# Altium footprint library Potentiometer_SMD.PcbLib: 26 footprints (part 1 of 2)
Each footprint in its own frame and in the unit in brackets; x right, y up, seen from the top. Pads: shape width x height; smd on the part's side, far side on the other; paste and mask are expansions set on the pad; w line width, h text height; cw(c..) or ccw(c..) is an arc to the next point about the centre after c.
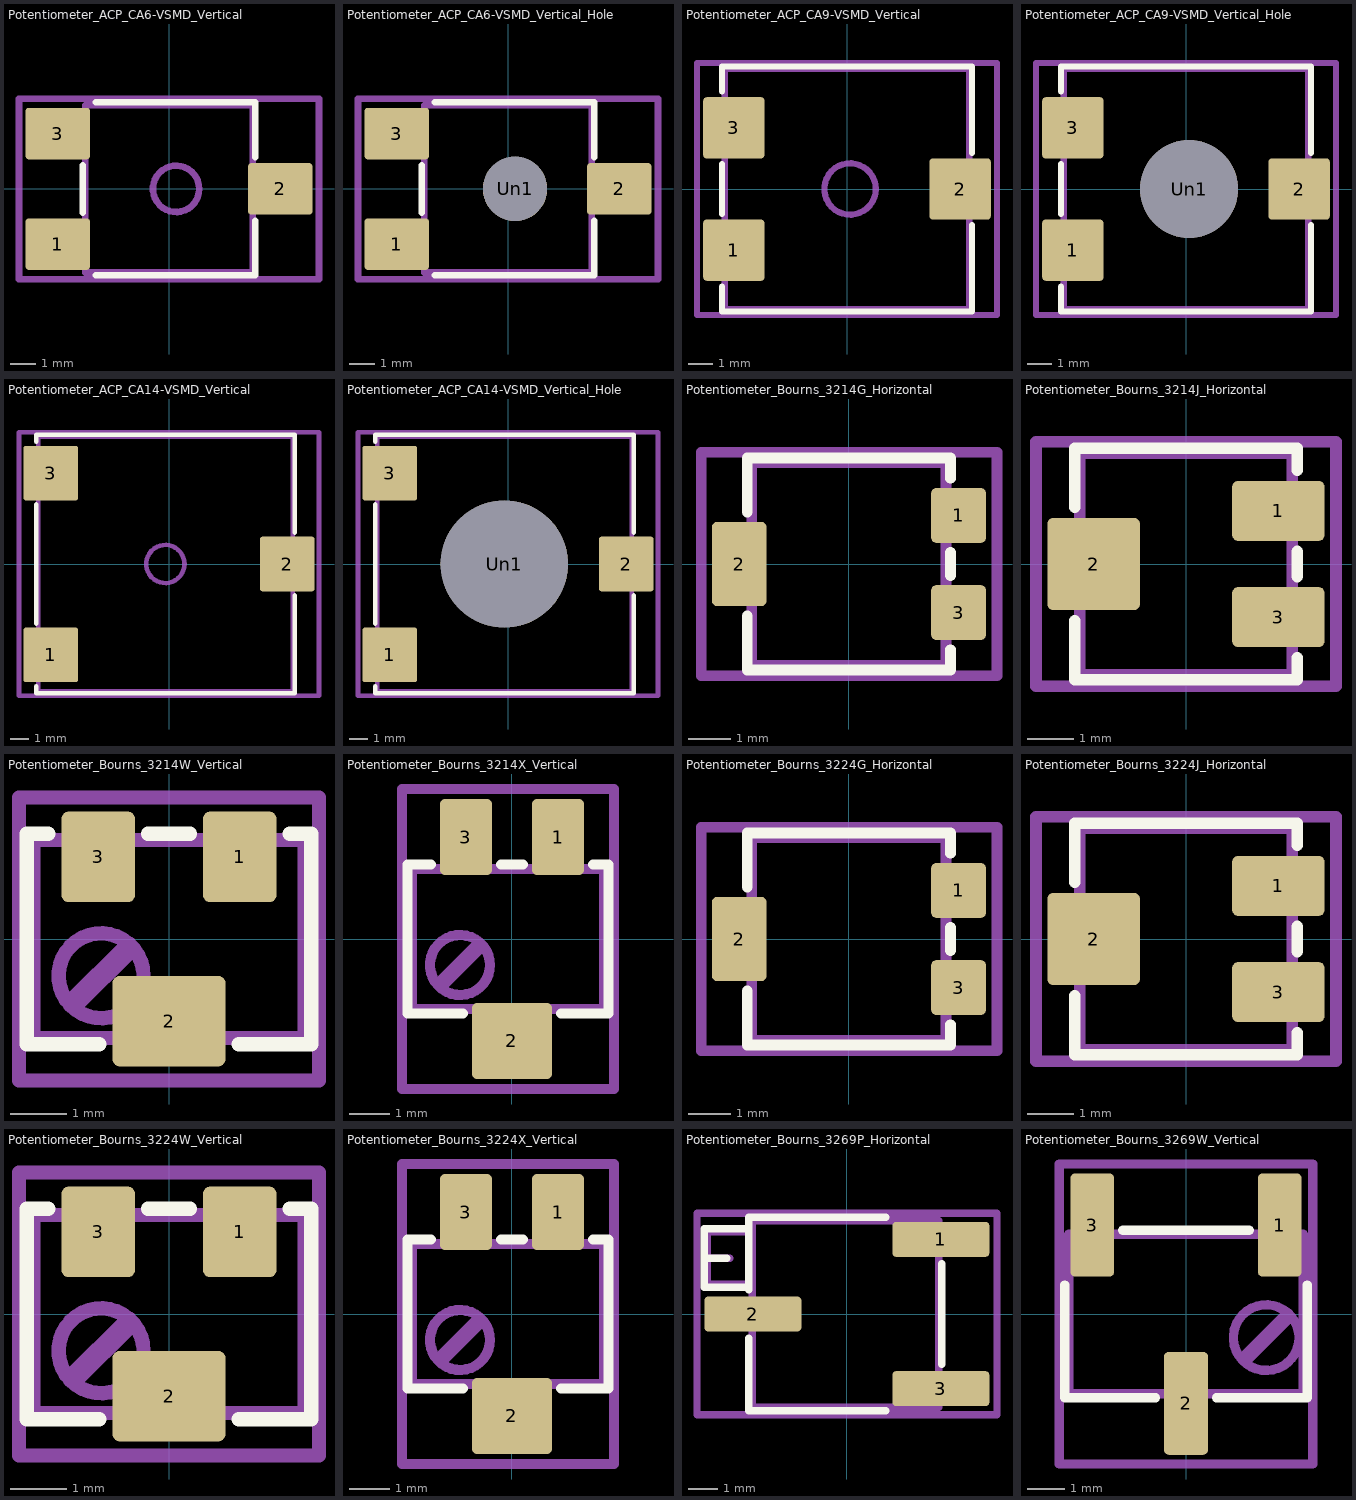
[diagram p0: the footprints below, top view; thin cyan lines are the x and y axes]

## Potentiometer_ACP_CA6-VSMD_Vertical [mm]
pads (3):
  rrect12% 2.5x2 smd: 1(-4.325,-2.15) 2(4.325,0) 3(-4.325,2.15)
F.SilkS:
  lines w0.254: -3.36,-0.92 -3.36,0.92 ; -2.845,-3.36 3.36,-3.36 3.36,-1.23 ; -2.845,3.36 3.36,3.36 3.36,1.23
F.Fab:
  circle w0.254: c0.275,0 r0.9
  lines w0.254: -3.25,-3.25 -3.25,3.25 3.25,3.25 3.25,-3.25 -3.25,-3.25
  text "'.Designator'" at -1.41,-4.047 h1
F.CrtYd:
  lines w0.254: -5.83,-3.51 -5.83,3.5 5.83,3.5 5.83,-3.51 -5.83,-3.51

## Potentiometer_ACP_CA6-VSMD_Vertical_Hole [mm]
pads (4):
  rrect12% 2.5x2 smd: 1(-4.325,-2.15) 2(4.325,0) 3(-4.325,2.15)
  round 2.5 hole 2.5: Un1(0.275,0)
F.SilkS:
  lines w0.254: -3.36,-0.92 -3.36,0.92 ; -2.845,-3.36 3.36,-3.36 3.36,-1.23 ; -2.845,3.36 3.36,3.36 3.36,1.23
F.Fab:
  lines w0.254: -3.25,-3.25 -3.25,3.25 3.25,3.25 3.25,-3.25 -3.25,-3.25
  text "'.Designator'" at -1.41,-4.047 h1
F.CrtYd:
  lines w0.254: -5.83,-3.51 -5.83,3.5 5.83,3.5 5.83,-3.51 -5.83,-3.51

## Potentiometer_ACP_CA9-VSMD_Vertical [mm]
pads (3):
  rrect10% 2.5x2.5 smd: 1(-4.625,-2.5) 2(4.625,0) 3(-4.625,2.5)
F.SilkS:
  lines w0.254: -5.11,-3.98 -5.11,-5.01 5.11,-5.01 5.11,-1.48 ; -5.11,-1.02 -5.11,1.02 ; -5.11,3.98 -5.11,5.01 5.11,5.01 5.11,1.48
F.Fab:
  circle w0.254: c0.125,0 r1.05
  lines w0.254: -5,-4.9 -5,4.9 5,4.9 5,-4.9 -5,-4.9
  text "'.Designator'" at -3.16,-4.047 h1
F.CrtYd:
  lines w0.254: -6.13,-5.15 -6.13,5.15 6.13,5.15 6.13,-5.15 -6.13,-5.15

## Potentiometer_ACP_CA9-VSMD_Vertical_Hole [mm]
pads (4):
  rrect10% 2.5x2.5 smd: 1(-4.625,-2.5) 2(4.625,0) 3(-4.625,2.5)
  round 4 hole 4: Un1(0.125,0)
F.SilkS:
  lines w0.254: -5.11,-3.98 -5.11,-5.01 5.11,-5.01 5.11,-1.48 ; -5.11,-1.02 -5.11,1.02 ; -5.11,3.98 -5.11,5.01 5.11,5.01 5.11,1.48
F.Fab:
  lines w0.254: -5,-4.9 -5,4.9 5,4.9 5,-4.9 -5,-4.9
  text "'.Designator'" at -3.16,-4.047 h1
F.CrtYd:
  lines w0.254: -6.13,-5.15 -6.13,5.15 6.13,5.15 6.13,-5.15 -6.13,-5.15

## Potentiometer_ACP_CA14-VSMD_Vertical [mm]
pads (3):
  rrect8% 3x3 smd: 1(-6.5,-5) 2(6.5,0) 3(-6.5,5)
F.SilkS:
  lines w0.254: -7.31,-6.73 -7.31,-7.11 6.91,-7.11 6.91,-1.73 ; -7.31,-3.27 -7.31,3.27 ; -7.31,6.73 -7.31,7.11 6.91,7.11 6.91,1.73
F.Fab:
  circle w0.254: c-0.2,0 r1.05
  lines w0.254: -7.2,-7 -7.2,7 6.8,7 6.8,-7 -7.2,-7
  text "'.Designator'" at -5.36,-4.047 h1
F.CrtYd:
  lines w0.254: -8.25,-7.25 -8.25,7.25 8.25,7.25 8.25,-7.25 -8.25,-7.25

## Potentiometer_ACP_CA14-VSMD_Vertical_Hole [mm]
pads (4):
  rrect8% 3x3 smd: 1(-6.5,-5) 2(6.5,0) 3(-6.5,5)
  round 7 hole 7: Un1(-0.2,0)
F.SilkS:
  lines w0.254: -7.31,-6.73 -7.31,-7.11 6.91,-7.11 6.91,-1.73 ; -7.31,-3.27 -7.31,3.27 ; -7.31,6.73 -7.31,7.11 6.91,7.11 6.91,1.73
F.Fab:
  lines w0.254: -7.2,-7 -7.2,7 6.8,7 6.8,-7 -7.2,-7
  text "'.Designator'" at -5.36,-4.047 h1
F.CrtYd:
  lines w0.254: -8.25,-7.25 -8.25,7.25 8.25,7.25 8.25,-7.25 -8.25,-7.25

## Potentiometer_Bourns_3214G_Horizontal [mm]
pads (3):
  rrect19% 1.3x1.3 smd: 1(2.6,1.15) 3(2.6,-1.15)
  rrect19% 1.3x2 smd: 2(-2.6,0)
F.SilkS:
  lines w0.254: -2.41,-1.23 -2.41,-2.51 2.41,-2.51 2.41,-2.03 ; -2.41,1.23 -2.41,2.51 2.41,2.51 2.41,2.03 ; 2.41,-0.27 2.41,0.27
F.Fab:
  lines w0.254: -2.3,-2.4 -2.3,2.4 2.3,2.4 2.3,-2.4 -2.3,-2.4
  text "'.Designator'" at -4.047,-0.84 h1
F.CrtYd:
  lines w0.254: -3.5,-2.65 -3.5,2.65 3.51,2.65 3.51,-2.65 -3.5,-2.65

## Potentiometer_Bourns_3214J_Horizontal [mm]
pads (3):
  rrect19% 2x1.3 smd: 1(2,1.15) 3(2,-1.15)
  rrect12% 2x2 smd: 2(-2,0)
F.SilkS:
  lines w0.254: -2.41,-1.23 -2.41,-2.51 2.41,-2.51 2.41,-2.03 ; -2.41,1.23 -2.41,2.51 2.41,2.51 2.41,2.03 ; 2.41,-0.27 2.41,0.27
F.Fab:
  lines w0.254: -2.3,-2.4 -2.3,2.4 2.3,2.4 2.3,-2.4 -2.3,-2.4
  text "'.Designator'" at -4.047,-0.84 h1
F.CrtYd:
  lines w0.254: -3.25,-2.65 -3.25,2.65 3.25,2.65 3.25,-2.65 -3.25,-2.65

## Potentiometer_Bourns_3214W_Vertical [mm]
pads (3):
  rrect19% 1.3x1.6 smd: 1(1.25,1.45) 3(-1.25,1.45)
  rrect16% 2x1.6 smd: 2(0,-1.45)
F.SilkS:
  lines w0.254: -2.13,1.86 -2.51,1.86 -2.51,-1.86 -1.23,-1.86 ; -0.37,1.86 0.37,1.86 ; 1.23,-1.86 2.51,-1.86 2.51,1.86 2.13,1.86
F.Fab:
  circle w0.254: c-1.2,-0.65 r0.75
  lines w0.254: -1.769,-1.127 -0.723,-0.081 ; -1.677,-1.219 -0.631,-0.173 ; -2.4,-1.75 -2.4,1.75 2.4,1.75 2.4,-1.75 -2.4,-1.75
  text "'.Designator'" at -1.828,-0.504 h0.6
F.CrtYd:
  lines w0.254: -2.65,-2.5 -2.65,2.5 2.65,2.5 2.65,-2.5 -2.65,-2.5

## Potentiometer_Bourns_3214X_Vertical [mm]
pads (3):
  rrect19% 1.3x1.9 smd: 1(1.15,2.55) 3(-1.15,2.55)
  rrect13% 2x1.9 smd: 2(0,-2.55)
F.SilkS:
  lines w0.254: -2.03,1.86 -2.61,1.86 -2.61,-1.86 -1.23,-1.86 ; -0.27,1.86 0.27,1.86 ; 1.23,-1.86 2.41,-1.86 2.41,1.86 2.03,1.86
F.Fab:
  circle w0.254: c-1.3,-0.65 r0.75
  lines w0.254: -1.869,-1.127 -0.823,-0.081 ; -1.777,-1.219 -0.731,-0.173 ; -2.5,-1.75 -2.5,1.75 2.3,1.75 2.3,-1.75 -2.5,-1.75
  text "'.Designator'" at -1.928,-0.504 h0.6
F.CrtYd:
  lines w0.254: -2.75,-3.75 -2.75,3.75 2.55,3.75 2.55,-3.75 -2.75,-3.75

## Potentiometer_Bourns_3224G_Horizontal [mm]
pads (3):
  rrect19% 1.3x1.3 smd: 1(2.6,1.15) 3(2.6,-1.15)
  rrect19% 1.3x2 smd: 2(-2.6,0)
F.SilkS:
  lines w0.254: -2.41,-1.23 -2.41,-2.51 2.41,-2.51 2.41,-2.03 ; -2.41,1.23 -2.41,2.51 2.41,2.51 2.41,2.03 ; 2.41,-0.27 2.41,0.27
F.Fab:
  lines w0.254: -2.3,-2.4 -2.3,2.4 2.3,2.4 2.3,-2.4 -2.3,-2.4
  text "'.Designator'" at -4.047,-0.84 h1
F.CrtYd:
  lines w0.254: -3.5,-2.65 -3.5,2.65 3.51,2.65 3.51,-2.65 -3.5,-2.65

## Potentiometer_Bourns_3224J_Horizontal [mm]
pads (3):
  rrect19% 2x1.3 smd: 1(2,1.15) 3(2,-1.15)
  rrect12% 2x2 smd: 2(-2,0)
F.SilkS:
  lines w0.254: -2.41,-1.23 -2.41,-2.51 2.41,-2.51 2.41,-2.03 ; -2.41,1.23 -2.41,2.51 2.41,2.51 2.41,2.03 ; 2.41,-0.27 2.41,0.27
F.Fab:
  lines w0.254: -2.3,-2.4 -2.3,2.4 2.3,2.4 2.3,-2.4 -2.3,-2.4
  text "'.Designator'" at -4.047,-0.84 h1
F.CrtYd:
  lines w0.254: -3.25,-2.65 -3.25,2.65 3.25,2.65 3.25,-2.65 -3.25,-2.65

## Potentiometer_Bourns_3224W_Vertical [mm]
pads (3):
  rrect19% 1.3x1.6 smd: 1(1.25,1.45) 3(-1.25,1.45)
  rrect16% 2x1.6 smd: 2(0,-1.45)
F.SilkS:
  lines w0.254: -2.13,1.86 -2.51,1.86 -2.51,-1.86 -1.23,-1.86 ; -0.37,1.86 0.37,1.86 ; 1.23,-1.86 2.51,-1.86 2.51,1.86 2.13,1.86
F.Fab:
  circle w0.254: c-1.2,-0.65 r0.75
  lines w0.254: -1.769,-1.127 -0.723,-0.081 ; -1.677,-1.219 -0.631,-0.173 ; -2.4,-1.75 -2.4,1.75 2.4,1.75 2.4,-1.75 -2.4,-1.75
  text "'.Designator'" at -1.828,-0.504 h0.6
F.CrtYd:
  lines w0.254: -2.65,-2.5 -2.65,2.5 2.65,2.5 2.65,-2.5 -2.65,-2.5

## Potentiometer_Bourns_3224X_Vertical [mm]
pads (3):
  rrect19% 1.3x1.9 smd: 1(1.15,2.55) 3(-1.15,2.55)
  rrect13% 2x1.9 smd: 2(0,-2.55)
F.SilkS:
  lines w0.254: -2.03,1.86 -2.61,1.86 -2.61,-1.86 -1.23,-1.86 ; -0.27,1.86 0.27,1.86 ; 1.23,-1.86 2.41,-1.86 2.41,1.86 2.03,1.86
F.Fab:
  circle w0.254: c-1.3,-0.65 r0.75
  lines w0.254: -1.869,-1.127 -0.823,-0.081 ; -1.777,-1.219 -0.731,-0.173 ; -2.5,-1.75 -2.5,1.75 2.3,1.75 2.3,-1.75 -2.5,-1.75
  text "'.Designator'" at -1.928,-0.504 h0.6
F.CrtYd:
  lines w0.254: -2.75,-3.75 -2.75,3.75 2.55,3.75 2.55,-3.75 -2.75,-3.75

## Potentiometer_Bourns_3269P_Horizontal [mm]
pads (3):
  rrect21% 3.3x1.19 smd: 1(3.2,2.54) 2(-3.2,0) 3(3.2,-2.54)
F.SilkS:
  lines w0.254: -4.855,1.905 -4.095,1.905 ; -3.335,-0.825 -3.335,-3.285 1.32,-3.285 ; -3.335,0.825 -3.335,3.285 1.32,3.285 ; 3.235,-1.715 3.235,1.715 ; -4.855,0.905 -4.855,2.905 -3.335,2.905 -3.335,0.905 -4.855,0.905
F.Fab:
  lines w0.254: -4.745,1.905 -3.985,1.905 ; -4.745,1.015 -4.745,2.795 -3.225,2.795 -3.225,1.015 -4.745,1.015 ; -3.225,-3.175 -3.225,3.175 3.125,3.175 3.125,-3.175 -3.225,-3.175
  text "'.Designator'" at -4.097,-0.84 h1
F.CrtYd:
  lines w0.254: -5.1,-3.43 -5.1,3.43 5.11,3.43 5.11,-3.43 -5.1,-3.43

## Potentiometer_Bourns_3269W_Vertical [mm]
pads (3):
  rrect21% 1.19x2.79 smd: 1(2.54,2.415) 2(0,-2.415) 3(-2.54,2.415)
F.SilkS:
  lines w0.254: -3.285,0.79 -3.285,-2.265 -0.825,-2.265 ; -1.715,2.275 1.715,2.275 ; 0.825,-2.265 3.285,-2.265 3.285,0.79
F.Fab:
  circle w0.254: c2.173,-0.635 r0.89
  lines w0.254: 1.498,-1.201 2.739,0.04 ; 1.607,-1.31 2.848,-0.069 ; -3.175,-2.155 -3.175,2.165 3.175,2.165 3.175,-2.155 -3.175,-2.155
  text "'.Designator'" at -4.099,-0.739 h0.89
F.CrtYd:
  lines w0.254: -3.43,-4.06 -3.43,4.07 3.43,4.07 3.43,-4.06 -3.43,-4.06